# Altium footprint library BMS_Master.PcbLib: 37 footprints (part 1 of 3)
Each footprint in its own frame and in the unit in brackets; x right, y up, seen from the top. Pads: shape width x height; smd on the part's side, far side on the other; paste and mask are expansions set on the pad; w line width, h text height; cw(c..) or ccw(c..) is an arc to the next point about the centre after c.
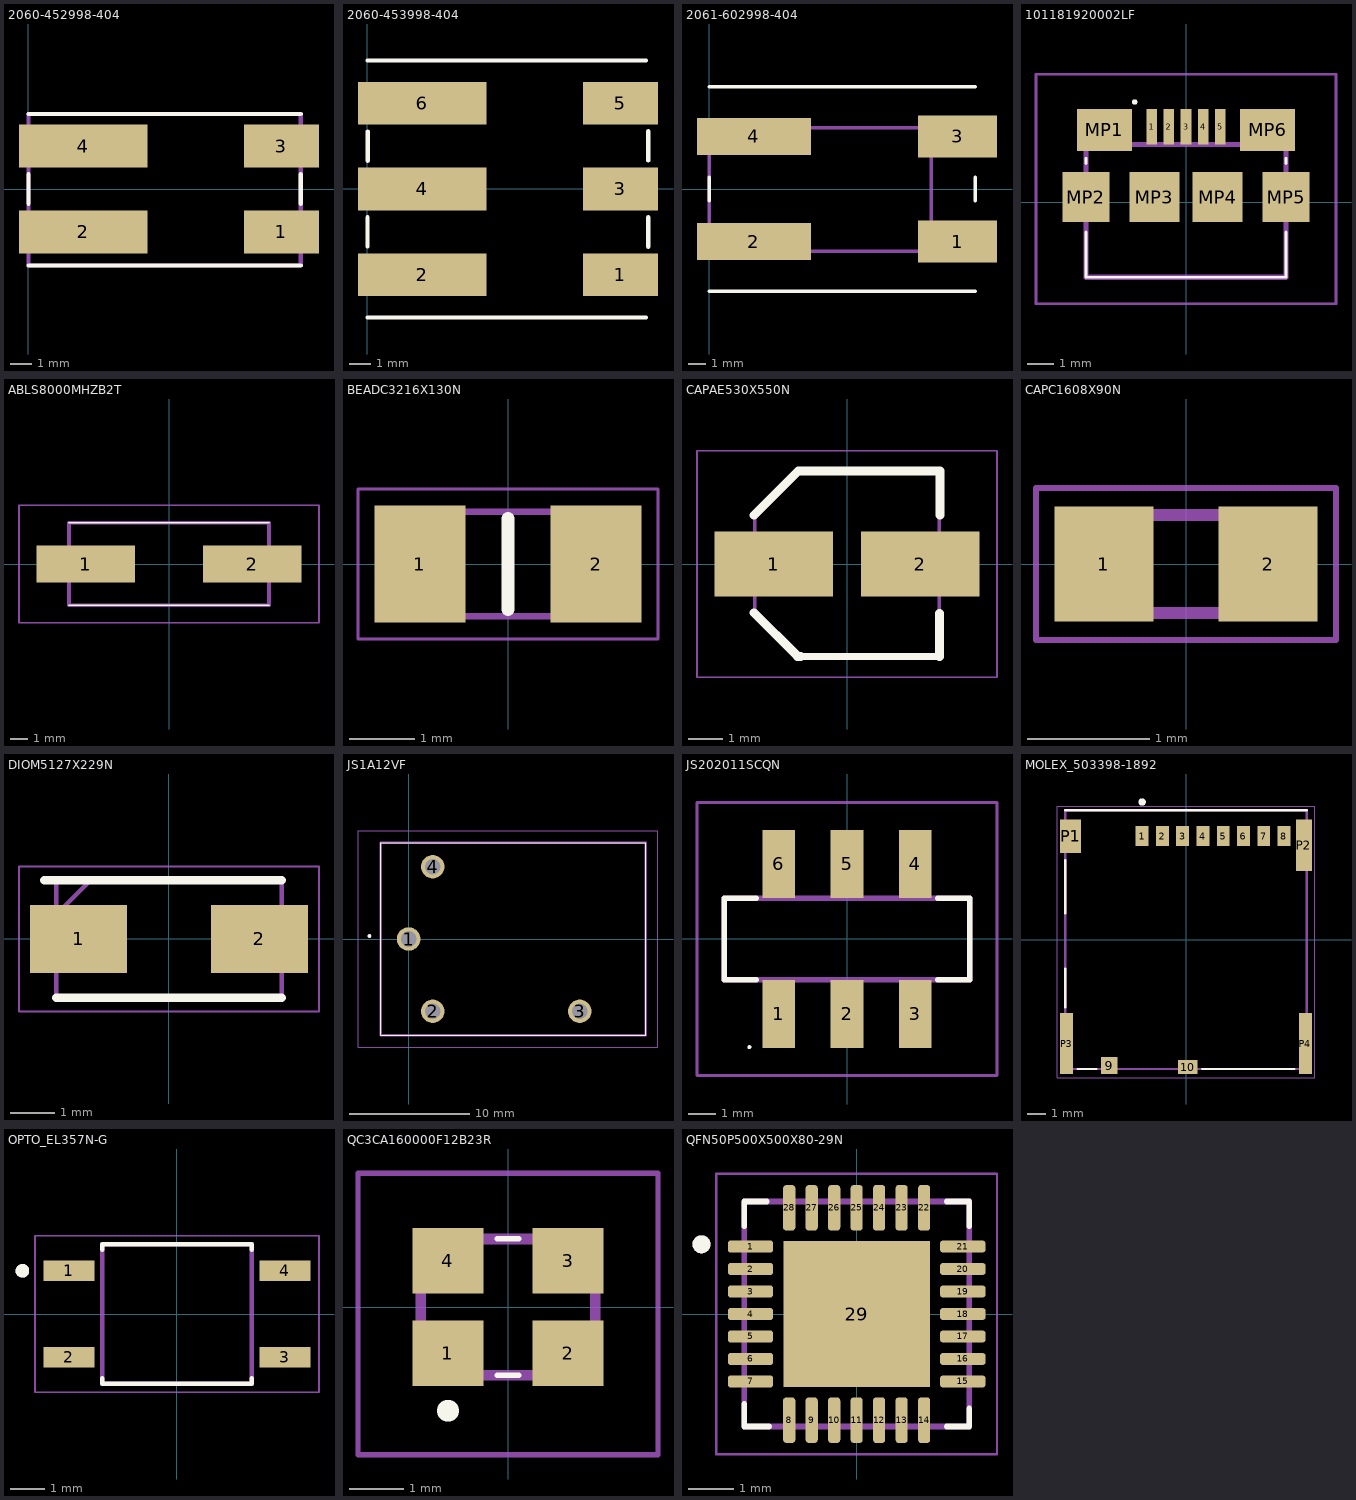
[diagram p0: the footprints below, top view; thin cyan lines are the x and y axes]

## 2060-452998-404 [mm]
pads (4):
  rect 3.5x2 smd: 1(11.808,-2) 3(11.808,2)
  rect 6x2 smd: 2(2.558,-2) 4(2.558,2)
Top Overlay:
  lines w0.2: 0,-3.567 12.7,-3.567 ; 0,-0.684 0,0.684 ; 0,3.503 12.7,3.503 ; 12.7,-0.684 12.7,0.684
Mechanical 13:
  lines w0.2: 0,-3.567 0,3.503 12.7,3.503 12.7,-3.567 0,-3.567
3D body "2060-452_998-404.stp": height 5.5, standoff 0, extent 0,-3.95 13.1,3.95

## 2060-453998-404 [mm]
pads (6):
  rect 3.5x2 smd: 1(11.808,-4) 3(11.808,0) 5(11.808,4)
  rect 6x2 smd: 2(2.558,-4) 4(2.558,0) 6(2.558,4)
Top Overlay:
  lines w0.2: 0,-6 13,-6 ; 0,-2.684 0,-1.316 ; 0,6 13,6 ; 0.018,1.314 0.018,2.682 ; 13.101,1.33 13.101,2.698 ; 13.11,-2.693 13.11,-1.325
3D body "2060-453_998-404.stp": height 5.5, standoff 0, extent 0,-5.95 13.1,5.95

## 2061-602998-404 [mm]
pads (4):
  rect 4.5x2.4 smd: 1(14.2,-3) 3(14.2,3)
  rect 6.5x2.1 smd: 2(2.558,-3) 4(2.558,3)
Top Overlay:
  lines w0.2: 0,-5.85 15.2,-5.85 ; 0,-0.684 0,0.684 ; 0,5.85 15.2,5.85 ; 15.2,-0.684 15.2,0.684
Mechanical 13:
  lines w0.2: 0,-3.567 12.7,-3.567 12.7,3.503 0,3.503 0,-3.567
3D body "2061-602_998-404.stp": height 6.75, standoff 0, extent 0,-5.85 15.8,5.85

## 101181920002LF [mm]
pads (11):
  rect 0.4x1.35 smd: 1(-1.3,2.862) 2(-0.65,2.862) 3(0,2.862) 4(0.65,2.862) 5(1.3,2.862)
  rect 2.1x1.6 smd: MP1(-3.1,2.737) MP6(3.1,2.737)
  rect 1.8x1.9 smd: MP2(-3.8,0.188) MP5(3.8,0.188)
  rect 1.9x1.9 smd: MP3(-1.2,0.188) MP4(1.2,0.188)
Top Overlay:
  lines w0.1: -3.8,-1.138 -3.8,-2.862 3.8,-2.862 3.8,-1.138 ; -3.8,1.462 -3.8,1.662 ; 3.8,1.462 3.8,1.662 ; -2,3.8 cw(c-1.95,3.8) -1.9,3.8 cw(c-1.95,3.8) -2,3.8
Mechanical 13:
  lines w0.2: -3.8,-2.862 -3.8,2.188 3.8,2.188 3.8,-2.862 -3.8,-2.862
Mechanical 15:
  lines w0.1: -5.7,-3.862 -5.7,4.85 5.7,4.85 5.7,-3.862 -5.7,-3.862
3D body "10118192-0002LF.stp": height 2.77, standoff 0, extent -3.95,-1.95 3.95,3.15

## ABLS8000MHZB2T [mm]
pads (2):
  rect 5.6x2.1 smd: 1(-4.75,0) 2(4.75,0)
Top Overlay:
  lines w0.1: -5.7,-2.35 5.7,-2.35 ; -5.7,2.35 5.7,2.35
Mechanical 13:
  lines w0.2: -5.7,-2.35 5.7,-2.35 5.7,2.35 -5.7,2.35 -5.7,-2.35
Mechanical 15:
  lines w0.1: -8.55,-3.35 8.55,-3.35 8.55,3.35 -8.55,3.35 -8.55,-3.35
3D body "ABLS-8.000MHZ-B2-T.stp": height 4.3, standoff 0, extent -7.34,-2.35 7.34,2.35

## BEADC3216X130N [mm]
pads (2):
  rect 1.4x1.8 smd: 1(-1.35,0) 2(1.35,0)
Top Overlay:
  lines w0.2: 0,-0.7 0,0.7
Mechanical 13:
  lines w0.1: -1.6,-0.8 -1.6,0.8 1.6,0.8 1.6,-0.8 -1.6,-0.8
Mechanical 15:
  lines w0.05: -2.3,-1.15 -2.3,1.15 2.3,1.15 2.3,-1.15 -2.3,-1.15
3D body "BLM31AJ601SN1L.stp": height 1.3, standoff 0, extent -1.6,-0.8 1.6,0.8

## CAPAE530X550N [mm]
pads (2):
  rect 3.4x1.85 smd: 1(-2.1,0) 2(2.1,0)
Top Overlay:
  lines w0.2: -1.325,-2.65 2.65,-2.65
  lines w0.254: -2.667,-1.397 -1.414,-2.65 -1.325,-2.65 ; -2.667,1.397 -1.397,2.667 2.667,2.667 2.667,1.397 ; 2.65,-2.65 2.65,-1.414
Mechanical 13:
  lines w0.1: -2.65,-1.325 -1.325,-2.65 2.65,-2.65 2.65,2.65 -1.325,2.65 -2.65,1.325 -2.65,-1.325
Mechanical 15:
  lines w0.05: -4.3,-3.25 -4.3,3.25 4.3,3.25 4.3,-3.25 -4.3,-3.25
3D body "NACE470M6.3V5X5.5TR13F.stp": height 5.5, standoff 0, extent -3.1,-2.75 3.1,2.75

## CAPC1608X90N [mm]
pads (2):
  rect 0.81x0.94 smd: 1(-0.67,0) 2(0.67,0)
Mechanical 13:
  lines w0.1: -0.8,-0.4 -0.8,0.4 0.8,0.4 0.8,-0.4 -0.8,-0.4
Mechanical 15:
  lines w0.05: -1.225,-0.62 -1.225,0.62 1.225,0.62 1.225,-0.62 -1.225,-0.62
3D body "EMK107B7105KA-T.stp": height 0.9, standoff 0, extent -0.8,-0.4 0.8,0.4

## DIOM5127X229N [mm]
pads (2):
  rect 2.2x1.55 smd: 1(-2.05,0) 2(2.05,0)
Top Overlay:
  lines w0.2: -2.825,1.332 2.552,1.332 ; -2.552,-1.332 2.552,-1.332
Mechanical 13:
  lines w0.1: -2.552,0.558 -1.778,1.332 ; -2.552,-1.332 2.552,-1.332 2.552,1.332 -2.552,1.332 -2.552,-1.332
Mechanical 15:
  lines w0.05: -3.4,-1.645 3.4,-1.645 3.4,1.645 -3.4,1.645 -3.4,-1.645
3D body "ES1D-E3_61T.stp": height 2.29, standoff 0, extent -2.552,-1.332 2.552,1.332

## JS1A12VF [mm]
pads (4):
  round 1.95 hole 1.3: 1(0,0) 2(2,-6) 3(14.2,-6) 4(2,6)
Top Overlay:
  lines w0.1: -2.3,-8 19.7,-8 19.7,8 -2.3,8 -2.3,-8
  lines w0.2: -3.3,0.25 cw(c-3.25,0.25) -3.2,0.25 ; -3.3,0.25 ccw(c-3.25,0.25) -3.2,0.25 ; -3.3,0.25 cw(c-3.25,0.25) -3.2,0.25
Mechanical 13:
  lines w0.2: -2.3,-8 19.7,-8 19.7,8 -2.3,8 -2.3,-8
Mechanical 15:
  lines w0.1: -4.2,-9 20.7,-9 20.7,9 -4.2,9 -4.2,-9
3D body "JS1A-12V-F.stp": height 16.5, standoff -5, extent -2.3,-8 19.7,8

## JS202011SCQN [mm]
pads (6):
  rect 1.2x2.5 smd: 1(-2.5,-2.75) 2(0,-2.75) 3(2.5,-2.75) 4(2.5,2.75) 5(0,2.75) 6(-2.5,2.75)
Top Overlay:
  lines w0.072: -3.614,-3.968 ccw(c-3.578,-3.968) -3.542,-3.968 ccw(c-3.578,-3.968) -3.614,-3.968
  lines w0.2: -3.323,-1.5 -4.5,-1.5 -4.5,1.5 -3.323,1.5 ; 3.323,-1.5 4.5,-1.5 4.5,1.5 3.323,1.5
Mechanical 13:
  lines w0.2: -4.5,-1.5 4.5,-1.5 4.5,1.5 -4.5,1.5 -4.5,-1.5
Mechanical 15:
  lines w0.1: -5.5,-5.004 5.5,-5.004 5.5,5 -5.5,5 -5.5,-5.004
3D body "JS202011SCQN.stp": height 5.65, standoff -0.2, extent -4.5,-3.5 4.5,3.5

## MOLEX_503398-1892 [mm]
pads (14):
  rect 0.7x1.1 smd: 1(-2.38,5.625) 2(-1.28,5.625) 3(-0.18,5.625) 4(0.92,5.625) 5(2.02,5.625) 6(3.12,5.625) 7(4.22,5.625) 8(5.32,5.625)
  rect 0.9x0.93 smd: 9(-4.17,-6.84)
  rect 1.05x0.78 smd: 10(0.095,-6.915)
  rect 1.14x1.83 smd: P1(-6.26,5.61)
  rect 0.86x2.8 smd: P2(6.4,5.125)
  rect 0.7x3.33 smd: P3(-6.48,-5.64) P4(6.48,-5.64)
Top Overlay:
  circle w0.2: c-2.38,7.475 r0.1
  lines w0.127: -6.55,-3.675 -6.55,-1.575 ; -6.55,1.425 -6.55,4.325 ; -6.55,7.025 6.55,7.025 ; -5.876,-7.025 -4.874,-7.025 ; 0.874,-7.025 5.876,-7.025
Mechanical 13:
  circle w0.2: c-2.38,5.775 r0.1
  lines w0.127: -6.55,-7.025 6.55,-7.025 6.55,7.025 -6.55,7.025 -6.55,-7.025
Mechanical 15:
  lines w0.05: -7,-7.5 7,-7.5 7,7.25 -7,7.25 -7,-7.5

## OPTO_EL357N-G [mm]
height 2
pads (4):
  rect 1.5x0.6 smd: 1(-3.175,1.27) 2(-3.175,-1.27) 3(3.175,-1.27) 4(3.175,1.27)
Top Overlay:
  circle w0.2: c-4.544,1.27 r0.1
  lines w0.127: -2.2,-1.89 -2.2,-2.05 2.2,-2.05 2.2,-1.89 ; -2.2,1.89 -2.2,2.05 2.2,2.05 2.2,1.89
Mechanical 13:
  circle w0.2: c-4.544,1.27 r0.1
  lines w0.127: -2.2,-2.05 2.2,-2.05 2.2,2.05 -2.2,2.05 -2.2,-2.05
Mechanical 15:
  lines w0.05: -4.175,-2.3 4.175,-2.3 4.175,2.3 -4.175,2.3 -4.175,-2.3
3D body "step_temp.STEP": height 2, standoff 0, extent -3.5,-2.05 3.5,2.05

## PCBComponent_1 [mm]

## QC3CA160000F12B23R [mm]
pads (4):
  rect 1.3x1.2 smd: 1(-1.1,-0.85) 2(1.1,-0.85) 3(1.1,0.85) 4(-1.1,0.85)
Top Overlay:
  lines w0.1: -0.2,-1.25 0.2,-1.25 ; -0.2,1.25 0.2,1.25
  lines w0.2: -1.2,-1.9 ccw(c-1.1,-1.9) -1,-1.9 ccw(c-1.1,-1.9) -1.2,-1.9
Mechanical 13:
  lines w0.2: -1.6,-1.25 -1.6,1.25 1.6,1.25 1.6,-1.25 -1.6,-1.25
Mechanical 15:
  lines w0.1: -2.75,-2.703 -2.75,2.45 2.75,2.45 2.75,-2.703 -2.75,-2.703
3D body "QC3CA16.0000F12B23R.stp": height 1.2, standoff 0, extent -1.63,-1.33 1.63,1.33

## QFN50P500X500X80-29N [mm]
height 0.8
pads (29):
  rrect50% 1.01x0.27 smd: 1(-2.36,1.5) 2(-2.36,1) 3(-2.36,0.5) 4(-2.36,0) 5(-2.36,-0.5) 6(-2.36,-1) 7(-2.36,-1.5) 15(2.36,-1.5) 16(2.36,-1) 17(2.36,-0.5) 18(2.36,0) 19(2.36,0.5) 20(2.36,1) 21(2.36,1.5)
  rrect50% 0.27x1.01 smd: 8(-1.5,-2.36) 9(-1,-2.36) 10(-0.5,-2.36) 11(0,-2.36) 12(0.5,-2.36) 13(1,-2.36) 14(1.5,-2.36) 22(1.5,2.36) 23(1,2.36) 24(0.5,2.36) 25(0,2.36) 26(-0.5,2.36) 27(-1,2.36) 28(-1.5,2.36)
  rect 3.25x3.25 smd paste-3: 29(0,0)
Top Overlay:
  circle w0.2: c-3.45,1.55 r0.1
  lines w0.127: -2.5,-2 -2.5,-2.5 -1.95,-2.5 ; -2.5,1.95 -2.5,2.5 -2,2.5 ; 2,-2.5 2.5,-2.5 2.5,-2.1 ; 2,2.5 2.5,2.5 2.5,1.95
Top Paste:
  region: 1.33,0.18 0.18,0.18 0.18,1.33 1.33,1.33
  region: -0.181,0.179 -1.331,0.179 -1.331,1.331 -0.181,1.331
  region: -0.18,-1.331 -1.331,-1.331 -1.331,-0.18 -0.18,-0.18
  region: 1.331,-1.331 0.179,-1.331 0.179,-0.181 1.331,-0.181
Mechanical 13:
  circle w0.2: c-3.45,1.55 r0.1
  lines w0.127: -2.5,-2.5 2.5,-2.5 2.5,2.5 -2.5,2.5 -2.5,-2.5
Mechanical 15:
  lines w0.05: -3.12,-3.12 3.12,-3.12 3.12,3.12 -3.12,3.12 -3.12,-3.12
3D body "step_temp.STEP": height 0.38, standoff -0.43, extent -2.5,-2.5 2.5,2.5